# EAGLE library part 0.5IN_10X2 (library dab5267)
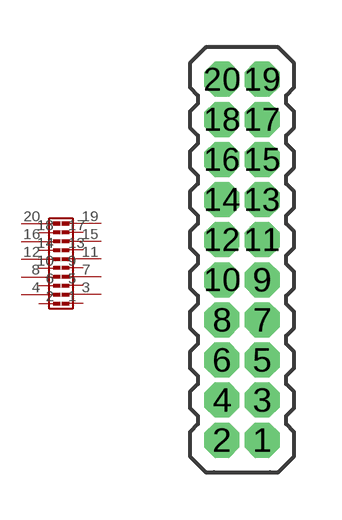
[diagram p0: symbol with the pads of 0.5IN_10X2; footprint 0.5IN_10X2]

Designator prefix J

## 0.5IN_10X2  [0.5IN_10X2]
1  1  pas
2  2  pas
3  3  pas
4  4  pas
5  5  pas
6  6  pas
7  7  pas
8  8  pas
9  9  pas
10  10  pas
11  11  pas
12  12  pas
13  13  pas
14  14  pas
15  15  pas
16  16  pas
17  17  pas
18  18  pas
19  19  pas
20  20  pas

## Footprint 0.5IN_10X2 (pad centres in mm)
drill 0.6 octagon: 1 0,0; 2 -1.27,0; 3 0,1.27; 4 -1.27,1.27; 5 0,2.54; 6 -1.27,2.54; 7 0,3.81; 8 -1.27,3.81; 9 0,5.08; 10 -1.27,5.08; 11 0,6.35; 12 -1.27,6.35; 13 0,7.62; 14 -1.27,7.62; 15 0,8.89; 16 -1.27,8.89; 17 0,10.16; 18 -1.27,10.16; 19 0,11.43; 20 -1.27,11.43